# Altium footprint library TMR6-2410.PcbLib: 1 footprints
Each footprint in its own frame and in the unit in brackets; x right, y up, seen from the top. Pads: shape width x height; smd on the part's side, far side on the other; paste and mask are expansions set on the pad; w line width, h text height; cw(c..) or ccw(c..) is an arc to the next point about the centre after c.
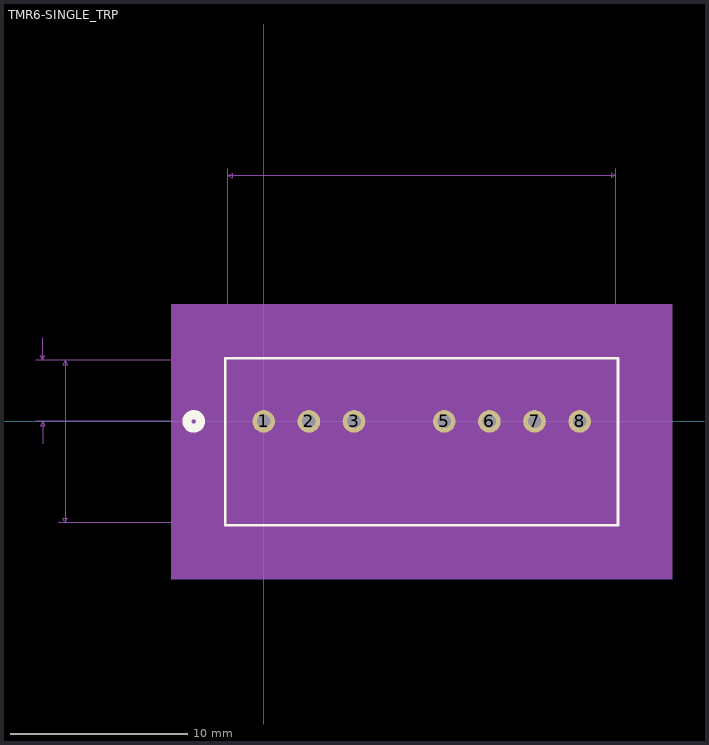
[diagram p0: the footprint, top view; thin cyan lines are the x and y axes]

## TMR6-SINGLE_TRP [mil]
pads (7):
  round 50 hole 30 mask+0: 1(0,0) 2(100,0) 3(200,0) 5(400,0) 6(500,0) 7(600,0) 8(700,0)
Top Overlay:
  circle w20: c-155,0 r15
  lines w6: -85,-230 785,-230 785,140 -85,140 -85,-230
Bottom Overlay:
  circle w20: c-155,0 r15
Mechanical 5:
  region: -205,260 905,260 905,-350 -205,-350
Mechanical 7:
  lines w1: -505,0 350,0 ; -505,135 -80,135 ; -490,-50 -490,0 ; -490,185 -490,135 ; -455,-225 -80,-225 ; -455,135 -80,135 ; -80,560 -80,135 ; -50,220 0,220 ; 0,235 0,0 ; 100,0 100,235 ; 150,220 100,220 ; 780,135 780,560 ; 880,-50 880,0 ; 880,50 880,0 ; -490,0 -495,-10 -485,-10 -490,0 ; -490,135 -495,145 -485,145 -490,135 ; -440,-225 -440,135 ; -440,-225 -445,-215 -435,-215 -440,-225 ; -440,135 -445,125 -435,125 -440,135 ; -80,545 780,545 ; -80,545 -70,550 -70,540 -80,545 ; 0,0 895,0 0,0 ; 0,220 -10,225 -10,215 0,220 ; 100,220 110,225 110,215 100,220 ; 780,545 770,550 770,540 780,545 ; 880,0 875,10 885,10 880,0 ; 880,0 875,-10 885,-10 880,0
  text "Default Padstyle: EX50Y50D30P" at -12.5,-385 h50
  text "1st Mtg Padstyle: RX110Y80D50P" at -25,-460 h50
  text "2nd Mtg Padstyle: EX70Y70D70P" at -12.5,-535 h50
  text "3rd Mtg Padstyle: EX70Y70D70P" at -12.5,-610 h50
  text "Left Mtg Padstyle: EX60Y60D30P" at -25,-685 h50
  text "Right Mtg Padstyle: EX60Y60D30P" at -37.5,-760 h50
  text "Alt Padstyle 1: OX60Y90D30P" at 12.5,-835 h50
  text "Alt Padstyle 2: OX90Y60D30P" at 12.5,-910 h50
  text "0.1in/2.54mm" at 50,240 h25
  text "0.86in/21.844mm" at 256.25,565 h25
  text "0in/0mm" at 900,-12.5 h25
  text "0.135in/3.429mm" at -697.5,55 h25
  text "0.36in/9.144mm" at -635,-57.5 h25
Mechanical 13:
  circle w20: c0,75 r15
  lines w1: -80,-225 780,-225 780,135 -80,135 -80,-225
Mechanical 15:
  region: 790,145 -90,145 -90,-235 790,-235
  lines w6: -90,-235 -90,145 790,145 790,-235 -90,-235
3D body: height 10, standoff 0, extent 0,0 10,10